# Altium schematic symbol library Schlib1.SchLib: 9 symbols
Pins are listed as number, name and electrical type; pins without a type are passive.

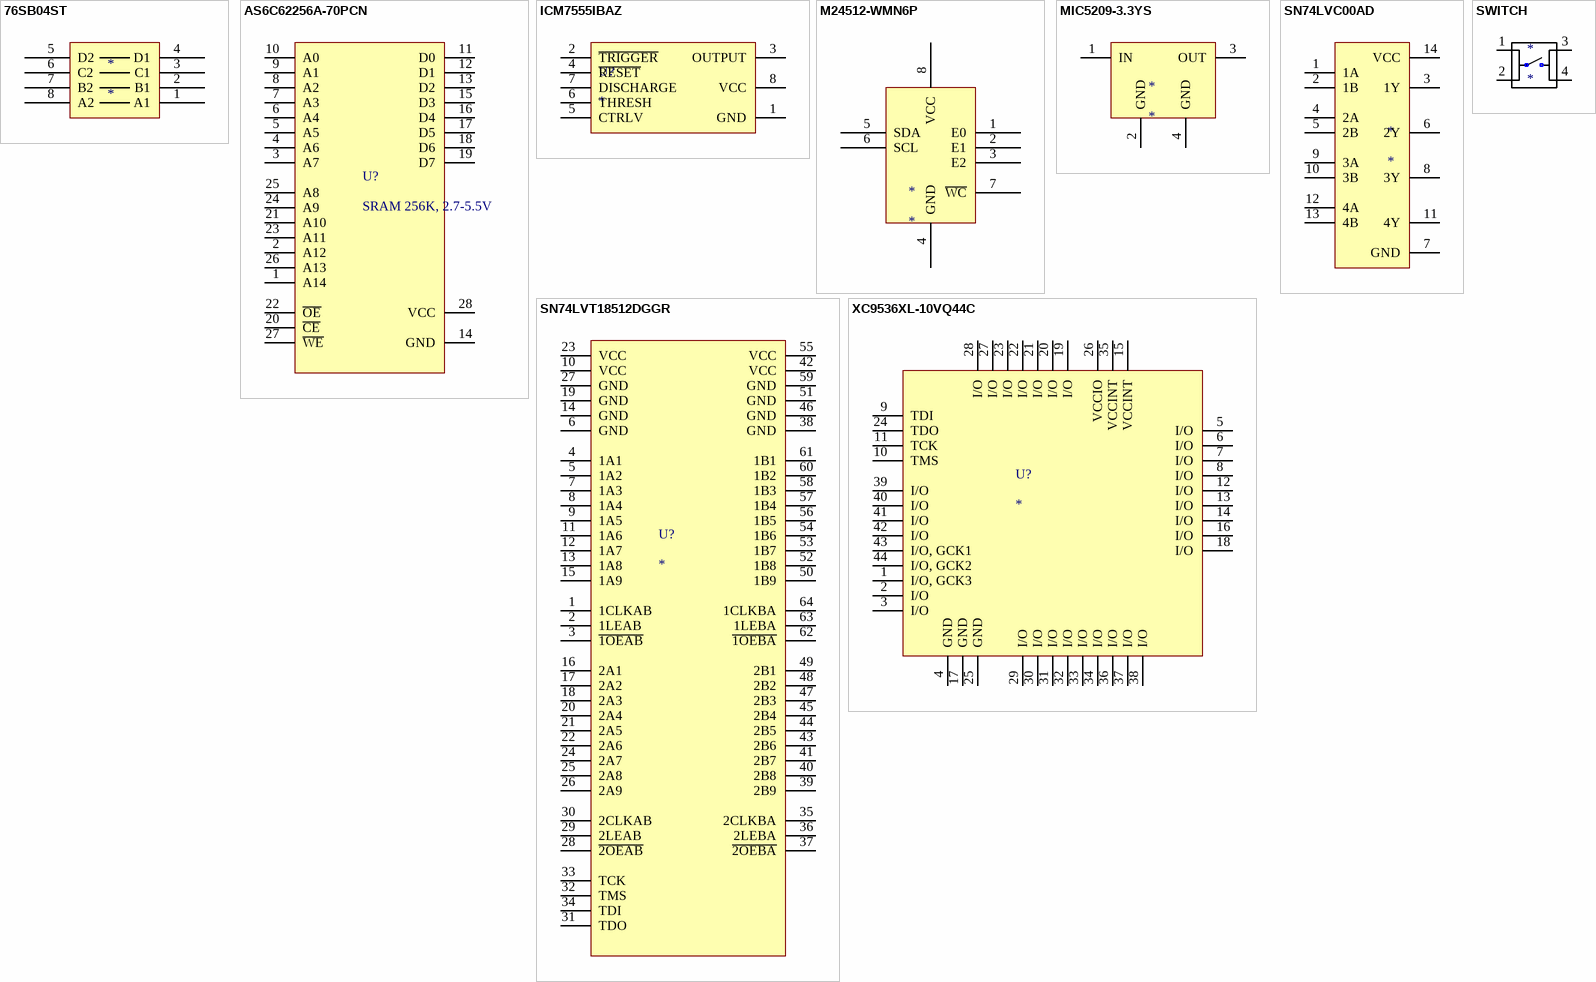
[diagram p0: symbols 76SB04ST to XC9536XL-10VQ44C]

## 76SB04ST
designator *
GRAYHILL         76SB04ST             DIP / SIP Switch, 76 Series, SPST, Through Hole, 4 Circuits, DIP Sealed, 30 VDC; Body Material: Thermoplastic; Mechanical Life: 2000Cycles; Max Voltage Rating (DC): 30V; Number of Positions: 4; Max Current Rating: 150mA; Insulation Resistance: 5GR; Actuator Type: Rocker; Pitch: 0.1inch; Lead Length: 3.96mm; Actuator Length: 0.58mm; Washable: Yes; Supplier 1: Digi-Key; Manufacturer 1: Grayhill; Manufacturer Part Number 1: 76SB04ST; Stock 1: 9210; Pricing 1: 1=1,30000, 21=1,22524, 42=1,17500, 63=1,10000, 105=1,07505, 252=0,95000, 504=0,90000, 1008=0,80000, 5019=0,70000 (USD); RoHS: Yes; Mount: Through Hole; Contact Material: Copper Alloy; Contact Plating: Gold; Min Operating Temperature: -40°C; Max Operating Temperature: 85°C; Throw Configuration: SPST; Termination: PC Pins; Voltage Rating (DC): 30V; Packaging: Rail/Tube; Current Rating: 150mA; Contact Current Rating: 150mA; Electrical Life: 2000Cycles; Number of Circuits: 4; Orientation: Straight; Length: 0.48inch; Terminal Pitch: 2.54mm; Depth: 9.65mm; Radiation Hardening: No; REACH SVHC: No SVHC; Lead Free: Lead Free; ComponentLink1URL: https://datasheet.ciiva.com/2864/dip-series-76-spst-2864336.pdf?src-supplier=Digi-Key; ComponentLink1Description: https://datasheet.ciiva.com/2864/dip-series-76-spst-2864336.pdf?src-supplier=Digi-Key; ComponentLink2URL: https://datasheet.ciiva.com/14542/70216655-14542680.pdf?src-supplier=Allied+Electronics; ComponentLink2Description: https://datasheet.ciiva.com/14542/70216655-14542680.pdf?src-supplier=Allied+Electronics; ComponentLink3URL: https://datasheet.ciiva.com/15226/getdatasheetpartid-90859-15226682.pdf?src-supplier=Verical; ComponentLink3Description: https://datasheet.ciiva.com/15226/getdatasheetpartid-90859-15226682.pdf?src-supplier=Verical; ComponentLink4URL: https://datasheet.ciiva.com/1528/1884225-1528972.pdf?src-supplier=Element14; ComponentLink4Description: https://datasheet.ciiva.com/1528/1884225-1528972.pdf?src-supplier=Element14; ComponentLink5URL: https://datasheet.ciiva.com/16507/dip-series-76-spst-16507935.pdf?src-supplier=Future+Electronics; ComponentLink5Description: https://datasheet.ciiva.com/16507/dip-series-76-spst-16507935.pdf?src-supplier=Future+Electronics; Supplier Part Number 1: GH7169-ND
footprint DIP8_sw
pins: 1 A1, 2 B1, 3 C1, 4 D1, 5 D2, 6 C2, 7 B2, 8 A2

## AS6C62256A-70PCN
designator U?, comment SRAM 256K, 2.7-5.5V
SRAM 256K, 2.7-5.5V, 70ns 32K x 8 Asynch SRAM; Manufacturer 1: Alliance Memory; Manufacturer Part Number 1: AS6C62256A-70PCN; Interface: Parallel; Memory Type: RAM; Max Supply Voltage: 5.5V; Min Supply Voltage: 4.5V; Memory Size: 256Kb; Operating Supply Voltage: 5V; Address Bus Width: 15b; Number of Ports: 1; Max Supply Current: 70mA; Supplier 1: Digi-Key; Stock 1: 373; Pricing 1: 1=3,20000, 15=2,90267, 30=2,83967, 60=2,82400, 105=2,53257, 255=2,52314, 510=2,43022, 1005=2,31053 (USD); RoHS: Yes; Case/Package: PDIP; Number of Pins: 28; Weight: 0.147798oz; Min Operating Temperature: 0°C; Max Operating Temperature: 70°C; Packaging: Rail/Tube; Package Quantity: 15; Access Time: 70ns; Density: 256Kb; Radiation Hardening: No; Lead Free: Lead Free; ComponentLink1URL: https://datasheet.ciiva.com/3201/as6c62256a-3201045.pdf?src-supplier=Avnet; ComponentLink1Description: https://datasheet.ciiva.com/3201/as6c62256a-3201045.pdf?src-supplier=Avnet; ComponentLink2URL: https://datasheet.ciiva.com/41860/as6c62256a-41860885.pdf?src-supplier=Digi-Key; ComponentLink2Description: https://datasheet.ciiva.com/41860/as6c62256a-41860885.pdf?src-supplier=Digi-Key; ComponentLink3URL: https://datasheet.ciiva.com/16350/as6c62256a-16350847.pdf?src-supplier=Future+Electronics; ComponentLink3Description: https://datasheet.ciiva.com/16350/as6c62256a-16350847.pdf?src-supplier=Future+Electronics; Supplier Part Number 1: 1450-1182-5-ND
footprint DIP28
pins: 1 A14, 2 A12, 3 A7, 4 A6, 5 A5, 6 A4, 7 A3, 8 A2, 9 A1, 10 A0, 11 D0, 12 D1, 13 D2, 14 GND, 15 D3, 16 D4, 17 D5, 18 D6, 19 D7, 20 ~{CE}, 21 A10, 22 ~{OE}, 23 A11, 24 A9, 25 A8, 26 A13, 27 ~{WE}, 28 VCC

## ICM7555IBAZ
designator U?
INTERSIL         ICM7555IBAZ             IC, TIMER CMOS, SMD, 7555, SOIC8; Frequency: 1MHz; Max Supply Voltage: 18V; Min Supply Voltage: 2V; Operating Supply Current: 60uA; Low Level Output Current: 20mA; High Level Output Current: -800uA; Number of Timers/Counters: 1; Current Rating: 300A; Supplier 1: Newark; Manufacturer 1: Intersil; Manufacturer Part Number 1: ICM7555IBAZ; Stock 1: 7411; Pricing 1: 1=0,71000, 10=0,58900, 100=0,38000, 500=0,34200, 1000=0,30400, 2500=0,25700, 10000=0,24800 (USD); RoHS: Yes; Mount: Surface Mount; Case/Package: SOIC; Number of Pins: 8; Min Operating Temperature: -25°C; Max Operating Temperature: 85°C; Packaging: Rail/Tube; Package Quantity: 98; Nominal Supply Current: 60uA; Number of Channels: 1; Length: 5mm; Height: 1.5mm; Width: 4mm; Radiation Hardening: No; Lead Free: Lead Free; REACH SVHC: No SVHC; ComponentLink1URL: https://datasheet.ciiva.com/14094/fe640180-14094962.pdf?src-supplier=Distrelec; ComponentLink1Description: https://datasheet.ciiva.com/14094/fe640180-14094962.pdf?src-supplier=Distrelec; ComponentLink2URL: https://datasheet.ciiva.com/3305/fn2867-3305545.pdf?src-supplier=Avnet; ComponentLink2Description: https://datasheet.ciiva.com/3305/fn2867-3305545.pdf?src-supplier=Avnet; ComponentLink3URL: https://datasheet.ciiva.com/6667/fn2867-6667931.pdf?src-supplier=Digi-Key; ComponentLink3Description: https://datasheet.ciiva.com/6667/fn2867-6667931.pdf?src-supplier=Digi-Key; ComponentLink4URL: https://datasheet.ciiva.com/16538/fn2867-16538076.pdf?src-supplier=Avnet+Europe; ComponentLink4Description: https://datasheet.ciiva.com/16538/fn2867-16538076.pdf?src-supplier=Avnet+Europe; ComponentLink5URL: https://datasheet.ciiva.com/18404/70206838-18404156.pdf?src-supplier=Allied+Electronics; ComponentLink5Description: https://datasheet.ciiva.com/18404/70206838-18404156.pdf?src-supplier=Allied+Electronics; ComponentLink6URL: https://datasheet.ciiva.com/6667/fn2867-6667037.pdf?src-supplier=Digi-Key; ComponentLink6Description: https://datasheet.ciiva.com/6667/fn2867-6667037.pdf?src-supplier=Digi-Key; Supplier Part Number 1: 97K1861
footprint SOIC127P600X171-8N (SOIC, 8-Leads, Body 4,91x3,80mm, Pitch 1,27mm, IPC Medium Density)
pins: 1 GND, 2 ~{TRIGGER}, 3 OUTPUT, 4 ~{RESET}, 5 CTRLV, 6 THRESH, 7 DISCHARGE, 8 VCC

## M24512-WMN6P
designator *
IC EEPROM 512K I2C 1MHZ 8SO; Manufacturer 1: STMicroelectronics; Manufacturer Part Number 1: M24512-WMN6P; Access Time: 900ns; Density: 512Kb; Max Frequency: 400kHz; Max Supply Voltage: 5.5V; Min Supply Voltage: 2.5V; Nominal Supply Current: 5mA; Operating Supply Voltage: 5V; Supplier 1: Farnell; Stock 1: 2136; RoHS: Yes; Mount: Surface Mount; Case/Package: SOIC; Number of Pins: 8; Min Operating Temperature: -40°C; Max Operating Temperature: 85°C; Interface: I2C; Frequency: 1MHz; Packaging: Rail/Tube; Memory Size: 512Kb; Package Quantity: 2000; Memory Type: EEPROM; Length: 4.9mm; Height: 1.25mm; Width: 3.9mm; Radiation Hardening: No; REACH SVHC: No SVHC; Lead Free: Lead Free; ComponentLink1URL: https://datasheet.ciiva.com/4861/cd00251873-231256-4861208.pdf?src-supplier=Mouser; ComponentLink1Description: https://datasheet.ciiva.com/4861/cd00251873-231256-4861208.pdf?src-supplier=Mouser; ComponentLink2URL: https://datasheet.ciiva.com/15123/getdatasheetpartid-392549-15123433.pdf?src-supplier=Verical; ComponentLink2Description: https://datasheet.ciiva.com/15123/getdatasheetpartid-392549-15123433.pdf?src-supplier=Verical; ComponentLink3URL: https://datasheet.ciiva.com/1925/cd00251873-1925766.pdf?src-supplier=Digi-Key; ComponentLink3Description: https://datasheet.ciiva.com/1925/cd00251873-1925766.pdf?src-supplier=Digi-Key; ComponentLink4URL: https://datasheet.ciiva.com/3185/cd00251873-3185690.pdf?src-supplier=Avnet; ComponentLink4Description: https://datasheet.ciiva.com/3185/cd00251873-3185690.pdf?src-supplier=Avnet; ComponentLink5URL: https://datasheet.ciiva.com/16444/cd00251873-16444943.pdf?src-supplier=Future+Electronics; ComponentLink5Description: https://datasheet.ciiva.com/16444/cd00251873-16444943.pdf?src-supplier=Future+Electronics; Supplier Part Number 1: 1670818
footprint SOIC127P600X171-8N (SOIC, 8-Leads, Body 4,91x3,80mm, Pitch 1,27mm, IPC Medium Density)
pins: 1 E0, 2 E1, 3 E2, 4 GND, 5 SDA, 6 SCL, 7 ~{WC}, 8 VCC

## MIC5209-3.3YS
designator *
IC REG LINEAR 3.3V 500MA SOT223; Manufacturer 1: Microchip Micrel; Manufacturer Part Number 1: MIC5209-3.3YS; Dropout Voltage: 350mV; Max Input Voltage: 16V; Min Input Voltage: 2.5V; Number of Regulators: 1; Output Type: Fixed; Polarity: Positive; Output Voltage Accuracy: 1%; Power Supply Rejection Ratio (PSRR): 75dB; Supplier 1: Digi-Key; Stock 1: 2154; Pricing 1: 1=1,23000, 25=1,01960, 100=0,92700 (USD); RoHS: Yes; Mount: Surface Mount; Case/Package: SOT-223; Number of Pins: 3; Min Operating Temperature: -40°C; Max Operating Temperature: 125°C; Output Current: 500mA; Packaging: Rail/Tube; Output Voltage: 3.3V; Nominal Output Voltage: 3.3V; Number of Outputs: 1; Max Output Current: 500mA; Package Quantity: 78; Min Output Voltage: 3.3V; Accuracy: 1%; Current Rating: 500mA; Length: 6.5mm; Height: 1.6mm; Width: 3.5mm; Radiation Hardening: No; REACH SVHC: No SVHC; Lead Free: Lead Free; ComponentLink1URL: https://datasheet.ciiva.com/2052/mic5209-2052771.pdf?src-supplier=Digi-Key; ComponentLink1Description: https://datasheet.ciiva.com/2052/mic5209-2052771.pdf?src-supplier=Digi-Key; ComponentLink2URL: https://datasheet.ciiva.com/7993/29478-7993545.pdf?src-supplier=Element14; ComponentLink2Description: https://datasheet.ciiva.com/7993/29478-7993545.pdf?src-supplier=Element14; ComponentLink3URL: https://datasheet.ciiva.com/7993/29478-7993546.pdf?src-supplier=Element14; ComponentLink3Description: https://datasheet.ciiva.com/7993/29478-7993546.pdf?src-supplier=Element14; ComponentLink4URL: https://datasheet.ciiva.com/16389/mic5209-16389119.pdf?src-supplier=Future+Electronics; ComponentLink4Description: https://datasheet.ciiva.com/16389/mic5209-16389119.pdf?src-supplier=Future+Electronics; Supplier Part Number 1: 576-3516-5-ND
footprint SOT230P700X180-4N (SOT223, 4-Leads, Body 6,50x7,00mm (avg), Pitch 2,30mm, IPC Medium Density)
pins: 1 IN, 2 GND, 3 OUT, 4 GND

## SN74LVC00AD
designator *
IC GATE NAND 4CH 2-INP 14SOIC; Manufacturer 1: Texas Instruments; Manufacturer Part Number 1: SN74LVC00AD; Number of Gates: 4; Propagation Delay: 4.3ns; Min Supply Voltage: 1.65V; Max Supply Voltage: 3.6V; Output Current: 24mA; Number of Inputs: 2; Number of Outputs: 1; Quiescent Current: 1uA; High Level Output Current: -24mA; Schmitt Trigger Input: No; Supplier 1: Digi-Key; Stock 1: 5347; Pricing 1: 1=0,49000, 10=0,39500, 50=0,36120, 100=0,26880, 500=0,20160, 1000=0,15120, 2500=0,13860, 5000=0,13020 (USD); RoHS: Yes; Mount: Surface Mount; Case/Package: SOIC; Number of Pins: 14; Weight: 0.004564oz; Min Operating Temperature: -40°C; Max Operating Temperature: 125°C; Logic Function: NAND; Number of Elements: 4; Packaging: Rail/Tube; Package Quantity: 50; Low Level Output Current: 24mA; Number of Circuits: 4; Number of Input Lines: 2; Number of Output Lines: 1; Number of Bits: 4; Turn-On Delay Time: 4.3ns; Length: 8.65mm; Height: 1.58mm; Width: 3.91mm; Radiation Hardening: No; Lead Free: Lead Free; REACH SVHC: No SVHC; ComponentLink1URL: https://datasheet.ciiva.com/4818/scas279p-110028-4818720.pdf?src-supplier=Mouser; ComponentLink1Description: https://datasheet.ciiva.com/4818/scas279p-110028-4818720.pdf?src-supplier=Mouser; ComponentLink2URL: https://datasheet.ciiva.com/14134/cp648305-e-14134462.pdf?src-supplier=Distrelec; ComponentLink2Description: https://datasheet.ciiva.com/14134/cp648305-e-14134462.pdf?src-supplier=Distrelec; ComponentLink3URL: https://datasheet.ciiva.com/25628/0900766b80b85ff0-25628459.pdf?src-supplier=RSComponents; ComponentLink3Description: https://datasheet.ciiva.com/25628/0900766b80b85ff0-25628459.pdf?src-supplier=RSComponents; ComponentLink4URL: https://datasheet.ciiva.com/15221/getdatasheetpartid-241496-15221861.pdf?src-supplier=Verical; ComponentLink4Description: https://datasheet.ciiva.com/15221/getdatasheetpartid-241496-15221861.pdf?src-supplier=Verical; ComponentLink5URL: https://datasheet.ciiva.com/14290/sn74lvc00a-14290830.pdf?src-supplier=Avnet; ComponentLink5Description: https://datasheet.ciiva.com/14290/sn74lvc00a-14290830.pdf?src-supplier=Avnet; ComponentLink6URL: https://datasheet.ciiva.com/26048/sn74lvc00a-26048399.pdf?src-supplier=Avnet+Europe; ComponentLink6Description: https://datasheet.ciiva.com/26048/sn74lvc00a-26048399.pdf?src-supplier=Avnet+Europe; ComponentLink7URL: https://datasheet.ciiva.com/1869/sn74lvc00a-1869460.pdf?src-supplier=Digi-Key; ComponentLink7Description: https://datasheet.ciiva.com/1869/sn74lvc00a-1869460.pdf?src-supplier=Digi-Key; ComponentLink8URL: https://datasheet.ciiva.com/7948/1834126-7948984.pdf?src-supplier=Element14; ComponentLink8Description: https://datasheet.ciiva.com/7948/1834126-7948984.pdf?src-supplier=Element14; Supplier Part Number 1: 296-1694-5-ND
footprint SOIC127P600X175-14N (SOIC, 14-Leads, Body 8,65x3,90mm, Pitch 1,27mm, IPC Medium Density)
pins: 1 1A, 2 1B, 3 1Y, 4 2A, 5 2B, 6 2Y, 7 GND, 8 3Y, 9 3A, 10 3B, 11 4Y, 12 4A, 13 4B, 14 VCC

## SN74LVT18512DGGR
designator U?
IC SCAN TEST UNIV TXRX 64TSSOP; Manufacturer 1: Texas Instruments; Manufacturer Part Number 1: SN74LVT18512DGGR; Operating Supply Voltage: 3.3V; Propagation Delay: 20ns; Number of Channels: 18; Min Supply Voltage: 2.7V; Max Supply Voltage: 3.6V; Number of Elements: 2; Direction: Bidirectional; Polarity: Non-Inverting; Logic Function: Transceiver; Quiescent Current: 18mA; High Level Output Current: 64mA; Low Level Output Current: 32mA; Supplier 1: Digi-Key; Stock 1: 406; Pricing 1: 1=7,61000, 10=6,87800, 100=5,69450, 500=4,95872, 1000=4,31889 (USD); RoHS: Yes; Mount: Surface Mount; Case/Package: TSSOP; Number of Pins: 64; Weight: 0.009263oz; Contact Plating: Gold; Min Operating Temperature: -40°C; Max Operating Temperature: 85°C; Number of Bits: 18; Package Quantity: 1; Packaging: Tape and Reel; Turn-On Delay Time: 20ns; Number of Outputs: 18; Radiation Hardening: No; Lead Free: Lead Free; ComponentLink1URL: https://datasheet.ciiva.com/1902/sn74lvt18512-1902320.pdf?src-supplier=Digi-Key; ComponentLink1Description: https://datasheet.ciiva.com/1902/sn74lvt18512-1902320.pdf?src-supplier=Digi-Key; ComponentLink2URL: https://datasheet.ciiva.com/26868/sn74lvt18512dggr-26868445.pdf?src-supplier=IIIC; ComponentLink2Description: https://datasheet.ciiva.com/26868/sn74lvt18512dggr-26868445.pdf?src-supplier=IIIC; ComponentLink3URL: https://datasheet.ciiva.com/1902/sn74lvt18512-1902321.pdf?src-supplier=Digi-Key; ComponentLink3Description: https://datasheet.ciiva.com/1902/sn74lvt18512-1902321.pdf?src-supplier=Digi-Key; ComponentLink4URL: https://datasheet.ciiva.com/1902/sn74lvt18512-1902322.pdf?src-supplier=Digi-Key; ComponentLink4Description: https://datasheet.ciiva.com/1902/sn74lvt18512-1902322.pdf?src-supplier=Digi-Key; Supplier Part Number 1: 296-8646-1-ND
footprint TSSOP50P810X105-64N (TSSOP, 64-Leads, Body 17,00x6,10mm, Pitch 0,50mm, IPC Medium Density)
pins: 1 1CLKAB, 2 1LEAB, 3 ~{1OEAB}, 4 1A1, 5 1A2, 6 GND, 7 1A3, 8 1A4, 9 1A5, 10 VCC, 11 1A6, 12 1A7, 13 1A8, 14 GND, 15 1A9, 16 2A1, 17 2A2, 18 2A3, 19 GND, 20 2A4, 21 2A5, 22 2A6, 23 VCC, 24 2A7, 25 2A8, 26 2A9, 27 GND, 28 ~{2OEAB}, 29 2LEAB, 30 2CLKAB, 31 TDO, 32 TMS, 33 TCK, 34 TDI, 35 2CLKBA, 36 2LEBA, 37 ~{2OEBA}, 38 GND, 39 2B9, 40 2B8, 41 2B7, 42 VCC, 43 2B6, 44 2B5, 45 2B4, 46 GND, 47 2B3, 48 2B2, 49 2B1, 50 1B9, 51 GND, 52 1B8, 53 1B7, 54 1B6, 55 VCC, 56 1B5, 57 1B4, 58 1B3, 59 GND, 60 1B2, 61 1B1, 62 ~{1OEBA}, 63 1LEBA, 64 1CLKBA

## SWITCH
designator *
footprint switch
pins: 1, 2, 3, 4

## XC9536XL-10VQ44C
designator U?
IC CPLD 36MC 10NS 44VQFP; Manufacturer 1: Xilinx; Manufacturer Part Number 1: XC9536XL-10VQ44C; Operating Supply Voltage: 3.3V; Speed Grade: 10; Number of Gates: 800; Number of Logic Blocks (LABs): 2; Number of Macrocells: 36; Memory Type: FLASH; Max Frequency: 100MHz; Number of I/Os: 34; Min Supply Voltage: 3V; Max Supply Voltage: 3.6V; Supplier 1: Farnell; Stock 1: 501; RoHS: Yes; Mount: Surface Mount; Case/Package: TQFP; Number of Pins: 44; Contact Plating: Tin; Min Operating Temperature: 0°C; Max Operating Temperature: 70°C; Propagation Delay: 10ns; Packaging: Tray; Package Quantity: 160; Number of Logic Elements/Cells: 2; Turn-On Delay Time: 10ns; Radiation Hardening: No; Lead Free: Contains Lead; ComponentLink1URL: https://datasheet.ciiva.com/1414/ds058-1414037.pdf?src-supplier=Digi-Key; ComponentLink1Description: https://datasheet.ciiva.com/1414/ds058-1414037.pdf?src-supplier=Digi-Key; Supplier Part Number 1: 2984653
footprint TQFP80P1200X1200X120-44N (TQFP, 44-Leads, Body 10,00x10,00mm, Pitch 0,80mm, IPC Medium Density)
pins: 1 I/O, GCK3, 2 I/O, 3 I/O, 4 GND, 5 I/O, 6 I/O, 7 I/O, 8 I/O, 9 TDI, 10 TMS, 11 TCK, 12 I/O, 13 I/O, 14 I/O, 15 VCCINT, 16 I/O, 17 GND, 18 I/O, 19 I/O, 20 I/O, 21 I/O, 22 I/O, 23 I/O, 24 TDO, 25 GND, 26 VCCIO, 27 I/O, 28 I/O, 29 I/O, 30 I/O, 31 I/O, 32 I/O, 33 I/O, 34 I/O, 35 VCCINT, 36 I/O, 37 I/O, 38 I/O, 39 I/O, 40 I/O, 41 I/O, 42 I/O, 43 I/O, GCK1, 44 I/O, GCK2